# Altium integrated library TDA2030V.IntLib: 1 symbol
Pins are listed as number, name and electrical type; pins without a type are passive.

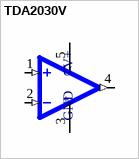
[diagram p0: symbol TDA2030V]

## TDA2030V
designator U
Amplifier IC 1-Channel _Mono_ Class AB 5-PENTAWATT; MP: TDA2030V; MF: STMicroelectronics; Value: *; SnapEDA_Link: https://www.snapeda.com/parts/TDA2030V/STMicroelectronics/view-part/814468/?ref=snap; Package: Pentawatt-5 STMicroelectronics; Availability: Unavailable; Price: None
footprint CB360
pins: 1 +IN (in), 2 -IN (in), 3 GND (power), 4 OUT (out), 5 V+ (power)